# EAGLE library part SN74LV4051ADR (library FSAE Electric)
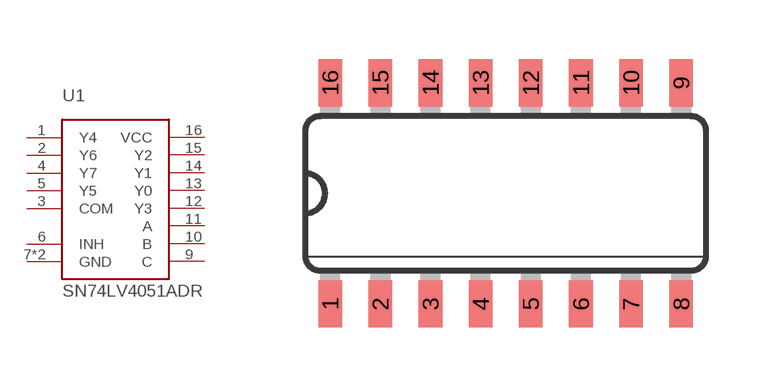
[diagram p52: symbol with the pads of SO-16; footprint SO-16]

Designator prefix U1

## SN74LV4051ADR (PARTNO: SN74LV4051ADR)  [SO-16]
1  Y4
2  Y6
3  COM
4  Y7
5  Y5
6  INH
7  GND
8  GND
9  C
10  B
11  A
12  Y3
13  Y0
14  Y1
15  Y2
16  VCC

## Footprint SO-16 (pad centres in mm)
smd 0.6 x 1.2: 1 -4.445,-2.8; 2 -3.175,-2.8; 3 -1.905,-2.8; 4 -0.635,-2.8; 5 0.635,-2.8; 6 1.905,-2.8; 7 3.175,-2.8; 8 4.445,-2.8; 9 4.445,2.8; 10 3.175,2.8; 11 1.905,2.8; 12 0.635,2.8; 13 -0.635,2.8; 14 -1.905,2.8; 15 -3.175,2.8; 16 -4.445,2.8